# Altium footprint library CA_1206_H16.PcbLib: 1 footprints
Each footprint in its own frame and in the unit in brackets; x right, y up, seen from the top. Pads: shape width x height; smd on the part's side, far side on the other; paste and mask are expansions set on the pad; w line width, h text height; cw(c..) or ccw(c..) is an arc to the next point about the centre after c.
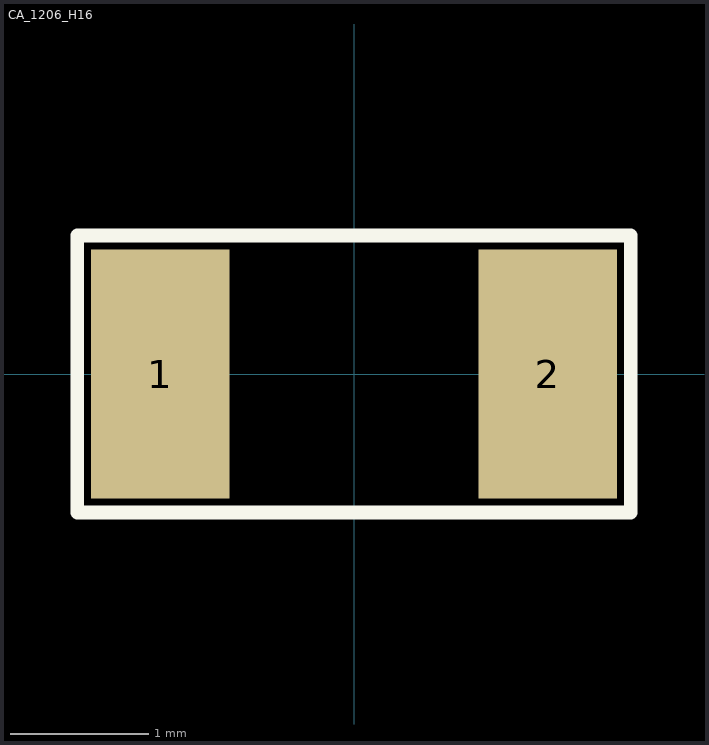
[diagram p0: the footprint, top view; thin cyan lines are the x and y axes]

## CA_1206_H16 [mm] "CA_1206"
height 1.6
pads (2):
  rect 1x1.8 smd: 1(-1.4,0) 2(1.4,0)
Top Overlay:
  lines w0.1: -2,-1 -2,1 2,1 2,-1 -2,-1
3D body: height 0.95, standoff 0, extent -1.6,-0.8 1.6,0.8